# Altium footprint library WL-ICLED.PcbLib: 6 footprints
Each footprint in its own frame and in the unit in brackets; x right, y up, seen from the top. Pads: shape width x height; smd on the part's side, far side on the other; paste and mask are expansions set on the pad; w line width, h text height; cw(c..) or ccw(c..) is an arc to the next point about the centre after c.
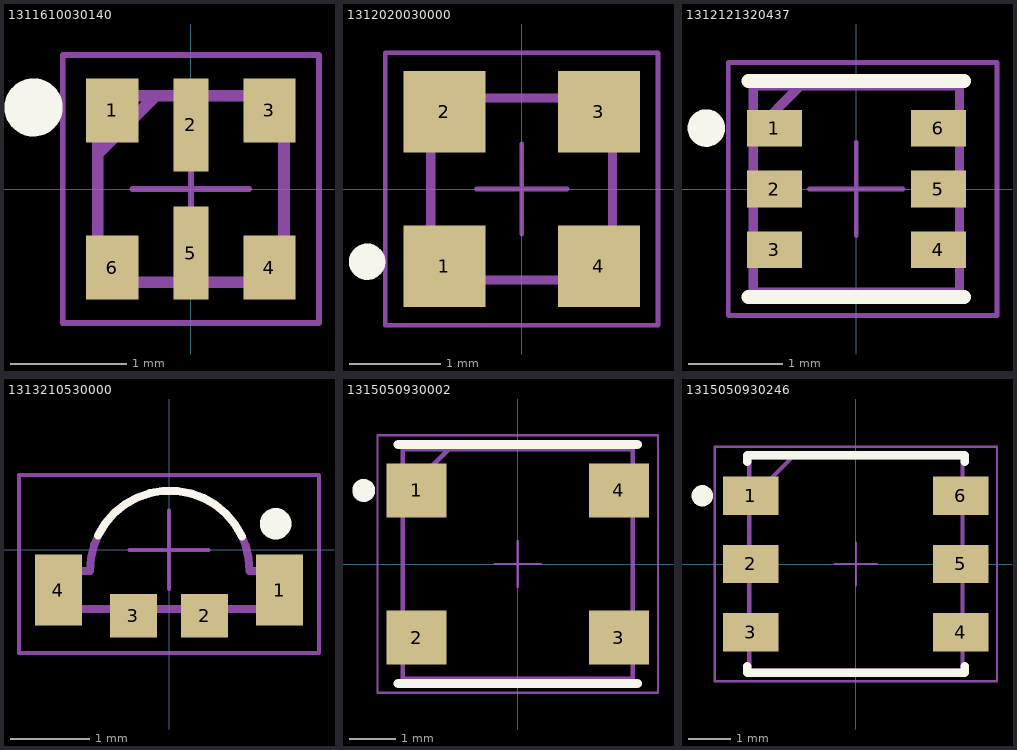
[diagram p0: the footprints below, top view; thin cyan lines are the x and y axes]

## 1311610030140 [mm] "Chip LED Compact IC RGB"
height 0.9
pads (6):
  rect 0.45x0.55 smd: 1(-0.675,0.675) 3(0.675,0.675) 4(0.675,-0.675) 6(-0.675,-0.675)
  rect 0.3x0.8 smd: 2(0,0.55) 5(0,-0.55)
Top Overlay:
  circle w0.25: c-1.35,0.7 r0.125
Top Component Outline:
  lines w0.1: -0.8,0.3 -0.3,0.8 ; -0.8,-0.8 0.8,-0.8 0.8,0.8 -0.8,0.8 -0.8,-0.8
Top Courtyard:
  lines w0.05: -1.1,-1.15 1.1,-1.15 1.1,1.15 -1.1,1.15 -1.1,-1.15
Top Component Center:
  lines w0.05: -0.5,0 0.5,0 ; 0,-0.5 0,0.5
Top Designator (Mech19):
  text ".Designator" at -2.499,-0.167 h0.5
3D body "1311610030140.stp": height 0.91, standoff 0.01, extent -0.8,-0.8 0.8,0.8

## 1312020030000 [mm] "Chip LED Compact IC RGB"
height 0.9
pads (4):
  rect 0.9x0.9 smd: 1(-0.85,-0.85) 2(-0.85,0.85) 3(0.85,0.85) 4(0.85,-0.85)
Top Overlay:
  circle w0.2: c-1.7,-0.8 r0.1
Top Component Outline:
  lines w0.1: -1,-1 -1,1 1,1 1,-1 -1,-1
Top Courtyard:
  lines w0.05: -1.5,-1.5 -1.5,1.5 1.5,1.5 1.5,-1.5 -1.5,-1.5
Top Component Center:
  lines w0.05: -0.5,0 0.5,0 ; 0,-0.5 0,0.5
Top Designator (Mech19):
  text ".Designator" at -2.499,-0.167 h0.5
3D body "1312020030000.stp": height 0.9, standoff 0, extent -1,-1 1,1

## 1312121320437 [mm] "Chip LED Compact IC RGB"
height 1.1
pads (6):
  rect 0.585x0.39 smd: 1(-0.875,0.65) 2(-0.875,0) 3(-0.875,-0.65) 4(0.875,-0.65) 5(0.875,0) 6(0.875,0.65)
Top Overlay:
  circle w0.2: c-1.6,0.65 r0.1
  lines w0.15: -1.15,-1.15 1.15,-1.15 ; -1.15,1.15 1.15,1.15
Top Component Outline:
  lines w0.1: -1.1,0.6 -0.6,1.1 ; -1.1,-1.1 -1.1,1.1 1.1,1.1 1.1,-1.1 -1.1,-1.1
Top Courtyard:
  lines w0.05: -1.368,-1.35 -1.368,1.35 1.5,1.35 1.5,-1.35 -1.368,-1.35
Top Component Center:
  lines w0.05: -0.5,0 0.5,0 ; 0,-0.5 0,0.5
Top Designator (Mech19):
  text ".Designator" at -2.499,-0.167 h0.5
3D body "1312121320437.stp": height 1.17, standoff 0, extent -1.101,-1.098 1.101,1.098

## 1313210530000 [mm] "Chip LED Compact IC RGB"
height 1
pads (4):
  rect 0.6x0.9 smd: 1(1.4,-0.51) 4(-1.4,-0.51)
  rect 0.6x0.55 smd: 2(0.45,-0.835) 3(-0.45,-0.835)
Top Overlay:
  circle w0.2: c1.35,0.33 r0.1
  lines w0.1: -0.899,0.18 cw(c0.01,-0.26) 0.925,0.168
Top Component Outline:
  circle w0.1: c1.3,-0.52 r0.15
  lines w0.1: -1.6,-0.75 1.6,-0.75 1.6,-0.27 1.02,-0.27 ccw(c0.01,-0.26) -1,-0.27 -1.6,-0.27 -1.6,-0.75
Top Courtyard:
  lines w0.05: -1.9,-1.31 1.9,-1.31 1.9,0.95 -1.9,0.95 -1.9,-1.31
Top Component Center:
  lines w0.05: -0.5,0 0.5,0 ; 0,-0.5 0,0.5
Top Designator (Mech19):
  text ".Designator" at -2.499,-0.167 h0.5
3D body "1313210530000.stp": height 1.01, standoff 0.01, extent -1.6,-0.75 1.6,0.742

## 1315050930002 [mm] "Chip LED Compact IC RGB"
height 1.58
pads (4):
  rect 1.3x1.17 smd: 1(-2.2,1.6) 2(-2.2,-1.6) 3(2.2,-1.6) 4(2.2,1.6)
Top Overlay:
  circle w0.25: c-3.35,1.6 r0.125
  lines w0.2: -2.6,-2.6 2.6,-2.6 ; -2.6,2.6 2.6,2.6
Top Component Outline:
  lines w0.1: -2.5,1.5 -1.5,2.5 ; -2.5,-2.5 2.5,-2.5 2.5,2.5 -2.5,2.5 -2.5,-2.5
Top Courtyard:
  lines w0.05: -3.05,-2.8 3.05,-2.8 3.05,2.8 -3.05,2.8 -3.05,-2.8
Top Component Center:
  lines w0.05: -0.5,0 0.5,0 ; 0,-0.5 0,0.5
Top Designator (Mech19):
  text ".Designator" at -4.998,-0.333 h1
3D body "1315050930002.stp": height 1.58, standoff 0, extent -2.7,-2.5 2.7,2.5

## 1315050930246 [mm] "Chip LED Compact IC RGB"
height 1.6
pads (6):
  rect 1.3x0.9 smd: 1(-2.46,1.6) 2(-2.46,0) 3(-2.46,-1.6) 4(2.46,-1.6) 5(2.46,0) 6(2.46,1.6)
Top Overlay:
  circle w0.25: c-3.6,1.6 r0.125
  lines w0.2: -2.55,-2.4 -2.55,-2.55 2.55,-2.55 2.55,-2.4 ; -2.55,2.4 -2.55,2.55 2.55,2.55 2.55,2.4
Top Component Outline:
  lines w0.1: -2.5,1.5 -1.5,2.5 ; -2.5,-2.5 2.5,-2.5 2.5,2.5 -2.5,2.5 -2.5,-2.5
Top Courtyard:
  lines w0.05: -3.31,-2.75 3.31,-2.75 3.31,2.75 -3.31,2.75 -3.31,-2.75
Top Component Center:
  lines w0.05: -0.5,0 0.5,0 ; 0,-0.5 0,0.5
Top Designator (Mech19):
  text ".Designator" at -4.998,-0.333 h1
3D body "1315050930246.stp": height 1.61, standoff 0.01, extent -2.68,-2.5 2.68,2.5